# Altium integrated library ECA1JHG101.IntLib: 1 symbol
Pins are listed as number, name and electrical type; pins without a type are passive.

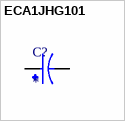
[diagram p0: symbol ECA1JHG101]

## ECA1JHG101
designator C?
100F 63V Aluminum Electrolytic Capacitors Radial, Can 2000 Hrs @ 105C; MF: Panasonic; MP: ECA-1JHG101; Availability: In Stock; Check_prices: https://www.snapeda.com/parts/ECA-1JHG101/Panasonic/view-part/?ref=eda; Package: RADIAL-2 Panasonic; Price: None; SnapEDA_Link: https://www.snapeda.com/parts/ECA-1JHG101/Panasonic/view-part/?ref=snap; Value: *; Purchase-URL: https://pricing.snapeda.com/search/part/ECA-1JHG101/?ref=eda
footprint CAPPRD500W60D1000H1250
pins: N, P